# EAGLE library part STM32_BLUE_PILL (library custom)
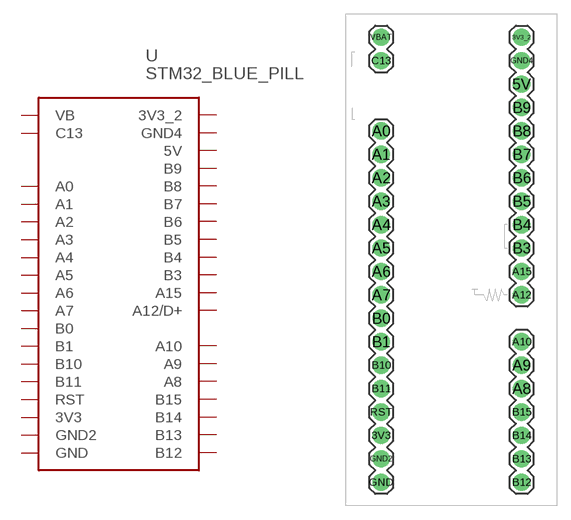
[diagram p139: symbol with the pads of STM32_BLUE_PILL_USABLE; footprint STM32_BLUE_PILL_USABLE]

Designator prefix U

## STM32_BLUE_PILL  [STM32_BLUE_PILL_USABLE]
3V3  3V3
3V3_2  3V3_2
5V  5V
A0  A0
A1  A1
A2  A2
A3  A3
A4  A4
A5  A5
A6  A6
A7  A7
A8  A8
A9  A9
A10  A10
A12  A12/D+
A15  A15
B0  B0
B1  B1
B3  B3
B4  B4
B5  B5
B6  B6
B7  B7
B8  B8
B9  B9
B10  B10
B11  B11
B12  B12
B13  B13
B14  B14
B15  B15
C13  C13
GND  GND
GND2  GND2
GND4  GND4
RST  RST
VBAT  VB

## Footprint STM32_BLUE_PILL_USABLE (pad centres in mm)
drill 1.016 pad 1.88: 3V3 -7.62,-19.05; 3V3_2 7.62,24.13; 5V 7.62,19.05; A0 -7.62,13.97; A1 -7.62,11.43; A2 -7.62,8.89; A3 -7.62,6.35; A4 -7.62,3.81; A5 -7.62,1.27; A6 -7.62,-1.27; A7 -7.62,-3.81; A8 7.62,-13.97; A9 7.62,-11.43; A10 7.62,-8.89; A12 7.62,-3.81; A15 7.62,-1.27; B0 -7.62,-6.35; B1 -7.62,-8.89; B3 7.62,1.27; B4 7.62,3.81; B5 7.62,6.35; B6 7.62,8.89; B7 7.62,11.43; B8 7.62,13.97; B9 7.62,16.51; B10 -7.62,-11.43; B11 -7.62,-13.97; B12 7.62,-24.13; B13 7.62,-21.59; B14 7.62,-19.05; B15 7.62,-16.51; C13 -7.62,21.59; GND -7.62,-24.13; GND2 -7.62,-21.59; GND4 7.62,21.59; RST -7.62,-16.51; VBAT -7.62,24.13